# Altium footprint library STM32F031G6U6.PcbLib: 2 footprints
Each footprint in its own frame and in the unit in brackets; x right, y up, seen from the top. Pads: shape width x height; smd on the part's side, far side on the other; paste and mask are expansions set on the pad; w line width, h text height; cw(c..) or ccw(c..) is an arc to the next point about the centre after c.
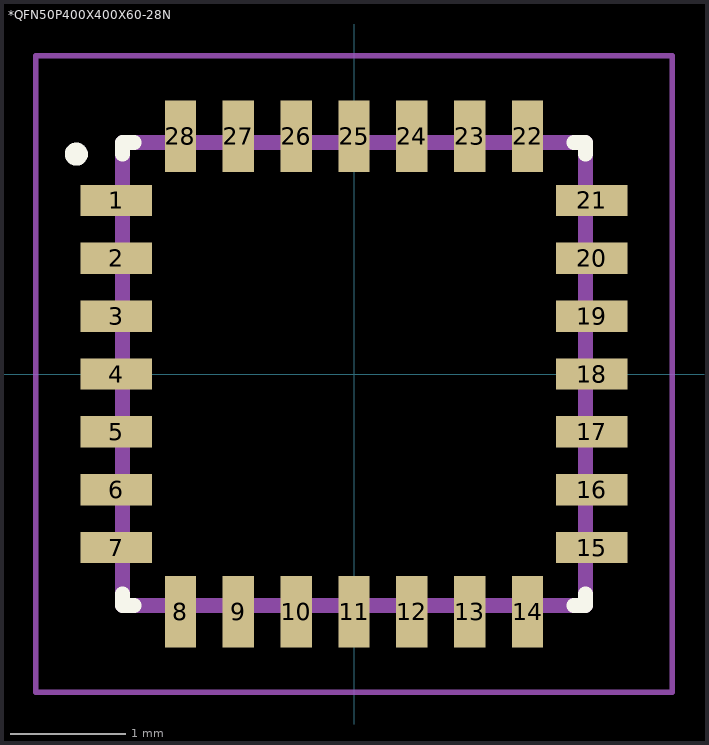
[diagram p0: the footprints below, top view; thin cyan lines are the x and y axes]

## *QFN50P400X400X60-28N [mm]
pads (28):
  rect 0.62x0.27 smd: 1(-2.055,1.5) 2(-2.055,1) 3(-2.055,0.5) 4(-2.055,0) 5(-2.055,-0.5) 6(-2.055,-1) 7(-2.055,-1.5) 15(2.055,-1.5) 16(2.055,-1) 17(2.055,-0.5) 18(2.055,0) 19(2.055,0.5) 20(2.055,1) 21(2.055,1.5)
  rect 0.27x0.62 smd: 8(-1.5,-2.055) 9(-1,-2.055) 10(-0.5,-2.055) 11(0,-2.055) 12(0.5,-2.055) 13(1,-2.055) 14(1.5,-2.055) 22(1.5,2.055) 23(1,2.055) 24(0.5,2.055) 25(0,2.055) 26(-0.5,2.055) 27(-1,2.055) 28(-1.5,2.055)
Top Overlay:
  circle w0.1: c-2.4,1.9 r0.05
  lines w0.127: -2,-1.9 -2,-2 -1.9,-2 ; -2,1.9 -2,2 -1.9,2 ; 1.9,-2 2,-2 2,-1.9 ; 1.9,2 2,2 2,1.9
Mechanical 4:
  lines w0.127: -2,-2 -2,2 ; -2,-2 2,-2 ; -2,-2 -2,2 ; -2,-2 2,-2 ; -2,2 2,2 ; -2,2 2,2 ; 2,-2 2,2 ; 2,-2 2,2
Mechanical 16:
  lines w0.05: -2.75,-2.75 -2.75,2.75 2.75,2.75 2.75,-2.75 -2.75,-2.75

## PCBComponent_1 [mm]